# EAGLE library part 691413720008 (library Wurth_Elektronik_Electromechanic_Terminal_Blocks_Connectors_rev16b)
WR-TBL Terminal block - serie 413 5.0mm - Spring clamp/Screw less - 45° entry - 08p Code:Con_TBL_Screwless_5.00_6914137200xxB_691413720008 Created 2014-12-22, aslant tao 2014 (C) Würth Elektronik
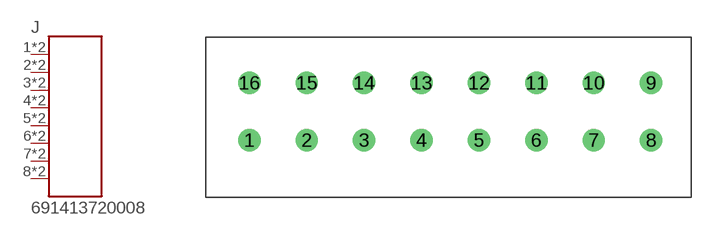
[diagram p255: symbol with the pads of 691413720008; footprint 691413720008]

Designator prefix J

## 691413720008  [691413720008]
1  1  pas
2  2  pas
3  3  pas
4  4  pas
5  5  pas
6  6  pas
7  7  pas
8  8  pas
9  8  pas
10  7  pas
11  6  pas
12  5  pas
13  4  pas
14  3  pas
15  2  pas
16  1  pas

## Footprint 691413720008 (pad centres in mm)
WR-TBL Serie 413 - 5.0mm Screwless 45° Entry - 3 mm2 Wires, 8 Pins
drill 1.3: 1 -10,-2.5; 2 -5,-2.5; 3 0,-2.5; 4 5,-2.5; 5 10,-2.5; 6 15,-2.5; 7 20,-2.5; 8 25,-2.5; 9 25,2.5; 10 20,2.5; 11 15,2.5; 12 10,2.5; 13 5,2.5; 14 0,2.5; 15 -5,2.5; 16 -10,2.5